# Altium schematic symbol library ftg_lib.SchLib: 73 symbols (part 1 of 2)
Pins are listed as number, name and electrical type; pins without a type are passive.

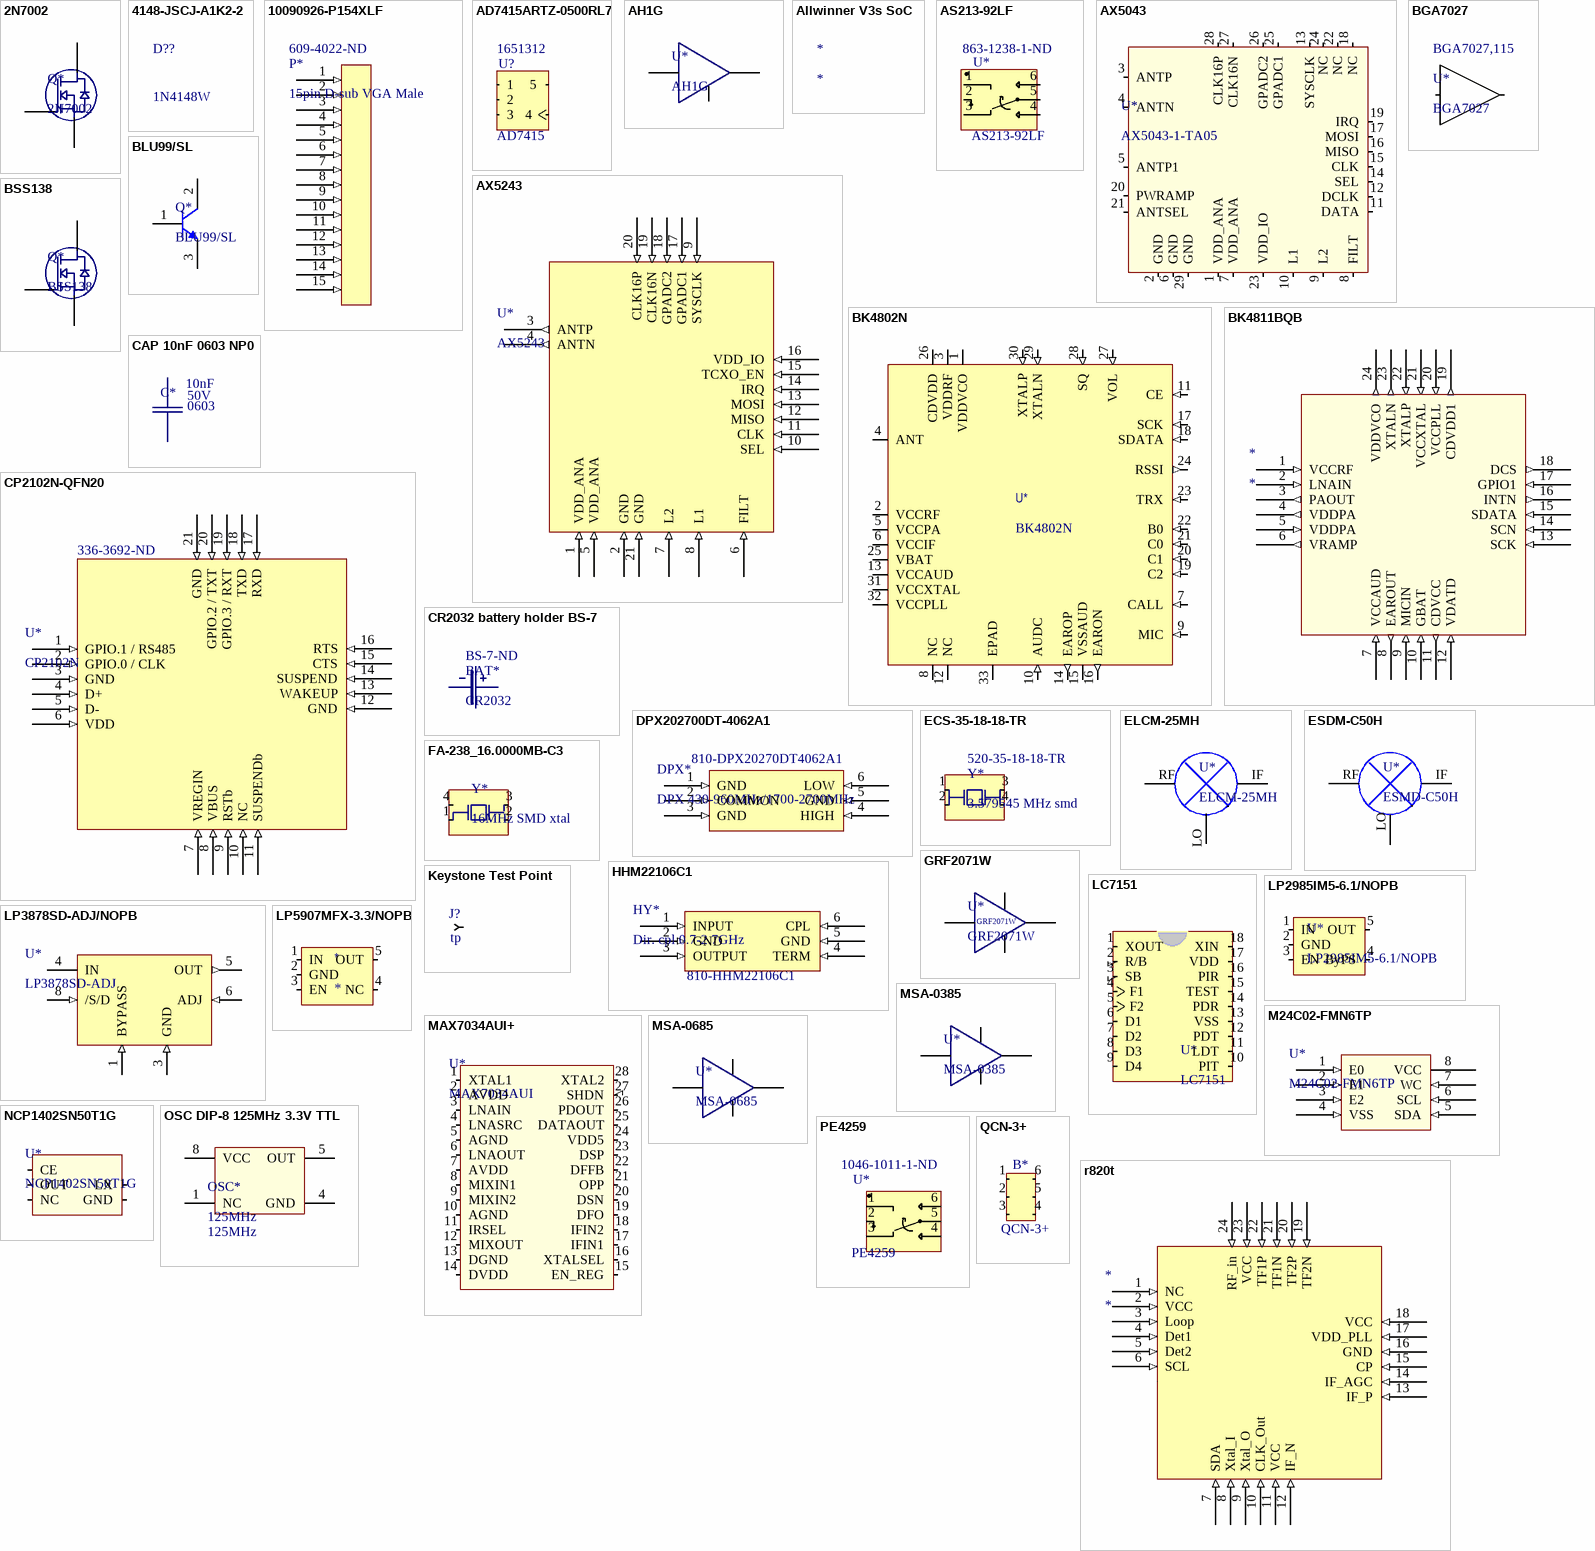
[diagram p0: symbols 2N7002 to r820t]

## 2N7002
designator Q*
MOSFET N-CH 60V 210MA SOT-23; Rds On Max: 7.5R; Input Capacitance: 27pF; Max Power Dissipation: 370mW; Drain to Source Breakdown Voltage: 50V; Turn-Off Delay Time: 7.6ns; Turn-On Delay Time: 2.8ns; Threshold Voltage: 2.5V; Gate to Source Voltage (Vgs): 20V; Number of Elements: 1; Element Configuration: Single; Rise Time: 3ns; Fall Time: 5.6ns; Manufacturer Part Number 1: 2N7002; Mount: Surface Mount; Case/Package: SOT-23; Number of Pins: 3; Contact Plating: Tin; Min Operating Temperature: -55°C; Max Operating Temperature: 150°C; Packaging: Tape and Reel; Package Quantity: 1; Continuous Drain Current (ID): 210mA; Drain to Source Resistance: 7.5R; Power Dissipation: 370mW; Drain to Source Voltage (Vdss): 50V; Nominal Vgs: 2.5V; Voltage Rating (DC): 50V; Current Rating: 210mA; Voltage: 50V; Dual Supply Voltage: 50V; Termination: SMD/SMT; Length: 2.92mm; Height: 0.93mm; Width: 1.3mm; Radiation Hardening: No; REACH SVHC: No SVHC; Lead Free: Lead Free; ComponentLink1URL: https://www.diodes.com/assets/Datasheets/ds11303.pdf; ComponentLink1Description: https://www.diodes.com/assets/Datasheets/ds11303.pdf; Supplier Part Number 1: 2N7002
footprint SOT-23 3-pin (SOT23, 3-Leads, Body 2,92x2,45mm, Pitch 0,95mm, IPC Medium Density)
pins: 1, 2, 3

## 4148-JSCJ-A1K2-2
designator D??, comment 1N4148W
Fast Switching Diode, 75 V, 150 mA, 2-Pin 2.7 x 1.6 x 1.25 mm SMD, Tape and Reel; Manufacturer: Changjiang Electronics; TSTG (degC): -55 to 150; IR (uA): 1; VR (V): 75; VF (V): 1.25; PD (mW): 350; Trr (ns): 4; IO (mA): 150; Packing: Tape and Reel; ComponentLink2URL: http://www.cj-elec.com/txUpfile/20121613352740313.pdf; PackageReference: SOD-123-2; PackageVersion: Rev. A; DatasheetVersion: Rev. A; ComponentLink3Description: Package Specification; ComponentLink3URL: http://www.cj-elec.com/txUpfile/201412112231195145.pdf; ComponentLink1Description: Manufacturer URL; ComponentLink1URL: http://www.cj-elec.com/; PartNumber: 1N4148W; ComponentLink2Description: Datasheet; PackageDescription: 2-Pin SMD, Body 2.7 x 1.6 mm, Height 1.25 mm; Mounting Technology: Surface Mount
footprint JSCJ-SOD-123-2_V (SMD, 2-Leads, Body 2.7x1.6mm, Height 1.25mm)

## 10090926-P154XLF
designator P*, comment 15pin D-sub VGA Male  Supplier Part Number 1: 609-4022-ND
CONN DSUB HD PLUG 15POS R/A SLDR; Manufacturer 1: Amphenol FCI; Manufacturer Part Number 1: 10090926-P154XLF; Plating: Nickel; Body Material: Steel; Max Supply Voltage: 250V; Current Rating: 2.5A; Mating Cycles: 200; Number of Positions: 15; Insulation: Insulated; Connector Type: D-Sub,Plug,Signal; Number of Ports: 1; Pitch: 2.29mm; Supplier 1: Digi-Key; Stock 1: 3052; Pricing 1: 1=1.66, 10=1.503, 25=1.4104, 50=1.3492, 100=1.2879, 250=1.1653, 500=1.0733, 1000=0.92, 2500=0.8586 (USD); Mount: Through Hole; Contact Plating: Nickel,Gold; Contact Material: Copper Alloy; Colour: Black; Shell Material: Steel; Number of Terminals: 15; Insulation Material: Thermoplastic; Housing Material: Thermoplastic; Min Operating Temperature: -55°C; Max Operating Temperature: 105°C; Number of Rows: 3; Gender: Male; Voltage Rating: 250V; Package Quantity: 90; Packaging: Tray; Termination: Solder; Number of Contacts: 15; Orientation: Right Angle; Length: 30.81mm; Height: 12.55mm; Width: 16.2mm; Depth: 22.1mm; Radiation Hardening: No; REACH SVHC: No SVHC; ComponentLink1URL: https://datasheet.ciiva.com/11743/0900766b80fc897f-11743105.pdf; ComponentLink1Description: https://datasheet.ciiva.com/11743/0900766b80fc897f-11743105.pdf; ComponentLink2URL: https://datasheet.ciiva.com/15177/getdatasheetpartid-254722-15177999.pdf; ComponentLink2Description: https://datasheet.ciiva.com/15177/getdatasheetpartid-254722-15177999.pdf; ComponentLink3URL: https://datasheet.ciiva.com/656/10090926-656427.pdf; ComponentLink3Description: https://datasheet.ciiva.com/656/10090926-656427.pdf; ComponentLink4URL: https://datasheet.ciiva.com/3108/10090926-3108332.pdf; ComponentLink4Description: https://datasheet.ciiva.com/3108/10090926-3108332.pdf
pins: 1 (in), 2 (in), 3 (in), 4 (in), 5 (in), 6 (in), 7 (in), 8 (in), 9 (in), 10 (in), 11 (in), 12 (in), 13 (in), 14 (in), 15 (in)

## AD7415ARTZ-0500RL7
designator U?, comment AD7415  OrderCode: 1651312
I2C temperature sensor; Manufacturer: ANALOG DEVICES; ManufacturerRef: AD7415ARTZ-0500RL7; Seller: Farnell; IC Output Type: Digital; Sensing Accuracy Range: ± 0.5; Sensing Temperature Min: -40; Sensing Temperature Max: +125; Sensor Case Style: SOT-23; No. of Pins: 5; Supply Voltage Min: 2.7; Supply Voltage Max: 5.5; Product Range: AD7415 Series; SVHC: No SVHC (17-Dec-2015); Base Number: 7415; Resolution: 10; Supply Current: 1.2; Supply Voltage Range: 2.7V to 5.5; Temperature Sensing Range: -40°C to +125; RoHS: YES; Stock 1: 1305; Pricing 1: 1=2.69, 10=1.81, 100=1.74, 250=1.57, 500=1.5, 800=1.41, 3000=1.33, 5000=1.24 (EUR); Packaging: Cut Tape; MSL: MSL 1 - Unlimited; Operating Temperature Max: 125; Operating Temperature Range: -40°C to +125; Resolution (Bits): 10; Sensor / Transducer Type: Temperature; Termination Type: Surface Mount Device<!--FANDB--><div class="features-and-benefits-container"><div class="features-and-benefits-description"><span class="features-benefits-value">The AD7415ARTZ-0500RL7 is a Digital Output Temperature Sensor that provides a 2-wire serial interface that is compatible with SMBus and I²C interface. It contains a band gap temperature sensor, a 10-bit ADC to monitor and digitize the temperature reading to a resolution of 0.25°C. The parts come in four versions and all versions give the possibility of eight different I²C addresses. The AD7415's supply voltage, low supply current and serial interface make it ideal for a variety of applications including personal computers, office equipment, cellular phones and domestic appliances.</span></div><div class="features-and-benefits-list"><ul class="features-and-benefits-list-list"><li class="features-and-benefits-list-item">10-bit Temperature-to-digital converter</li><li class="features-and-benefits-list-item">3?A Power-down current</li><li class="features-and-benefits-list-item">29?s Typical temperature conversion time</li><li class="features-and-benefits-list-item">Pin selectable addressing via AS</li><li class="features-and-benefits-list-item">2 Versions allow 6 I²C addresses</li></ul></div><div class="features-and-benefits-warnings"><span class="features-benefits-value">ESD sensitive device, take proper precaution while handling the device.</span></div><div class="features-and-benefits-applications"><ul class="features-and-benefits-value"><li class="features-and-benefits-list-item">Computers & Computer Peripherals</li><li class="features-and-benefits-list-item">Automation & Process Control</li><li class="features-and-benefits-list-item">Communications & Networking</li></ul></div></div>; ComponentLink1URL: http://www.farnell.com/datasheets/750934.pdf; ComponentLink1Description: http://www.farnell.com/datasheets/750934.pdf; ComponentLink2URL: http://www.farnell.com/cad/1617077.zip; ComponentLink2Description: http://www.farnell.com/cad/1617077.zip; Publisher: iv
footprint SOT23-5 (SOT23-5 case)
pins: 1, 2, 3, 4, 5

## AH1G
designator U*
250-4000MHz MMIC PA AMP; Manufacturer 1: TriQuint; Manufacturer Part Number 1: AH1; Frequency: 4GHz; Number of Channels: 1; Supply Voltage: 5V; Gain: 13.5dB; P1dB: +22dBm; Supplier 1: Newark; Stock 1: 0; Pricing 1: 1=37.74, 25=34.58, 50=32.12, 100=31.07, 250=30.01 (USD); Mount: Surface Mount; Case/Package: SOT-89; Radiation Hardening: No; ComponentLink1URL: https://www.verical.com/server-webapp/html/getDatasheet?partID=559390; ComponentLink1Description: https://www.verical.com/server-webapp/html/getDatasheet?partID=559390; Supplier Part Number 1: 15B6194
footprint SOT-89 (SOT-89/TO-243C case)
pins: 1, 2, 3

## Allwinner V3s SoC
designator *
footprint eTQFP40P1600X1600X160_HS-129N (eTQFP, 128-Leads, Body 14,00x14,00mm, Pitch 0,40mm, Thermal Pad 7,75x7,75mm, IPC Medium Density Allwinner)

## AS213-92LF
designator U*  Supplier Part Number 1: 863-1238-1-ND
Switch SPDT 0.1-3GHZ GAAS SC70-6; Manufacturer 1: Skyworks Solutions Inc.; Frequency - Lower: 100MHz; Frequency - Upper: 3GHz; Isolation @ Frequency: 19dB @ 3GHz (typ); Insertion Loss @ Frequency: 0.5dB @ 3GHz; IIP3: 40dBm (typ); Topology: Reflective; P1dB: 27dBm (typ) IP1dB; Impedance: 50 Ohm; Voltage - Supply: 3V; RF Type: Bluetooth, WLAN; Supplier 1: Digi-Key; Manufacturer Part Number 1: AS213-92LF; RoHS: RoHS Compliant; Category: RF/IF and RFID; Stock 1: 26253; Pricing 1: 1=0.41, 100=0.3393 (EUR); Packaging: Cut Tape (CT); Circuit: SPDT; Features: -; Operating Temperature: -40°C ~ 85°C; Package / Case: 6-TSSOP, SC-88, SOT-363; Supplier Device Package: SC-70-6; ComponentLink1URL: http://www.skyworksinc.com/uploads/documents/200193D.pdf; ComponentLink1Description: http://www.skyworksinc.com/uploads/documents/200193D.pdf
footprint SC70_6
pins: 1, 2, 3, 4, 5, 6

## AX5043
designator U*, comment AX5043-1-TA05
Data Tranceiver 27-1050MHz Separate TX/RX ports; Manufacturer: ON Semiconductor; Frequency: 27MHz; Data Rate: 125Kbps; Sensitivity: -137dBm; Max Frequency: 1.05GHz; Min Supply Voltage: 1.8V; Max Supply Voltage: 3.6V; Interface: SPI,UART; Current - Receiving: 11mA; Current - Transmitting: 48mA; Supplier 1: Mouser; Manufacturer Part Number: AX5043-1-TA05; Stock 1: 3949; Mount: Surface Mount; Case/Package: QFN; Number of Pins: 28; Min Operating Temperature: -40°C; Max Operating Temperature: 85°C; Packaging: Tape and Reel; REACH SVHC: No SVHC; Lead Free: Lead Free; ComponentLink1URL: http://www.mouser.com/ds/2/308/AX5043-D-782042.pdf; ComponentLink1Description: http://www.mouser.com/ds/2/308/AX5043-D-782042.pdf; ComponentLink2URL: http://www.onsemi.com/pub_link/Collateral/AX5043-D.PDF; ComponentLink2Description: http://www.onsemi.com/pub_link/Collateral/AX5043-D.PDF; ComponentLink3URL: http://www.farnell.com/datasheets/2009298.pdf; ComponentLink3Description: http://www.farnell.com/datasheets/2009298.pdf; ComponentLink4URL: http://www.onsemi.com/pub/Collateral/AX5043-D.PDF; ComponentLink4Description: http://www.onsemi.com/pub/Collateral/AX5043-D.PDF
footprint QFN50P500X500X85_HS-29M (QFN, 28-Leads, Body 5,00x5,00mm, Pitch 0,50mm, Thermal Pad 3,25x3,25mm, IPC Low Density)
pins: 1 VDD_ANA (in), 2 GND (in), 3 ANTP (out), 4 ANTN (out), 5 ANTP1 (out), 6 GND (in), 7 VDD_ANA (in), 8 FILT (in), 9 L2 (in), 10 L1 (in), 11 DATA (in), 12 DCLK (in), 13 SYSCLK (in), 14 SEL (in), 15 CLK (in), 16 MISO (in), 17 MOSI (in), 18 NC (in), 19 IRQ (in), 20 PWRAMP (out), 21 ANTSEL (out), 22 NC (in), 23 VDD_IO (in), 24 NC (in), 25 GPADC1 (in), 26 GPADC2 (in), 27 CLK16N (in), 28 CLK16P (in), 29 GND (in) "Center pad"

## AX5243
designator U*
Data Tranceiver 27-1050MHz common TX/RX port; Frequency: 27MHz; Data Rate: 125Kbps; Sensitivity: -137dBm; Interface: SPI; Current - Receiving: 11mA; Current - Transmitting: 48mA; Max Frequency: 1.05GHz; Min Supply Voltage: 1.8V; Max Supply Voltage: 3.6V; Supplier 1: Mouser; Supplier 2: Digi-Key; Manufacturer 2: ON Semiconductor; Manufacturer Part Number 2: AX5243-1-TA05; Stock 2: 0; Pricing 2: 1=2.34, 10=2.117, 100=1.701 (USD); Mount: Surface Mount; Case/Package: QFN; Number of Pins: 20; Min Operating Temperature: -40°C; Max Operating Temperature: 85°C; Packaging: Tape and Reel; Lead Free: Lead Free; REACH SVHC: No SVHC; ComponentLink1URL: http://www.onsemi.com/pub/Collateral/AX5243-D.PDF; ComponentLink1Description: http://www.onsemi.com/pub/Collateral/AX5243-D.PDF; ComponentLink2URL: http://www.farnell.com/datasheets/2009300.pdf; ComponentLink2Description: http://www.farnell.com/datasheets/2009300.pdf; Supplier Part Number 1: 863-AX5243-1-TA05; Supplier Part Number 2: AX5243-1-TA05OSCT-ND
footprint QFN20 4,00x4,00mm ON Semi
pins: 1 VDD_ANA (in), 2 GND (in), 3 ANTP (out), 4 ANTN (out), 5 VDD_ANA (in), 6 FILT (in), 7 L2 (in), 8 L1 (in), 9 SYSCLK (in), 10 SEL (in), 11 CLK (in), 12 MISO (in), 13 MOSI (in), 14 IRQ (in), 15 TCXO_EN (in), 16 VDD_IO (in), 17 GPADC1 (in), 18 GPADC2 (in), 19 CLK16N (in), 20 CLK16P (in), 21 GND (in) "Center pad"

## BGA7027
designator U*  Manufacturer Part Number: BGA7027,115
700-2700MHz amplifier 26dBm, 11dB gain; Manufacturer: NXP Semiconductors; Frequency: 400MHz ~ 2.7GHz; Noise Figure: 3.9dB; RF Type: General Purpose; Voltage - Supply: 5V; Current - Supply: 165mA; Test Frequency: 2.14GHz; Supplier 1: Mouser; Stock 1: 982; Standard Package: 1,000; Category: RF/IF and RFID; Family: RF Amplifiers; P1dB: 26dBm; Gain: 11dB; Package / Case: TO-243AA; Packaging: Tape & Reel (TR); ComponentLink1URL: https://datasheet.ciiva.com/6491/bga7027-6491665.pdf; ComponentLink1Description: https://datasheet.ciiva.com/6491/bga7027-6491665.pdf; ComponentLink2URL: https://datasheet.ciiva.com/16644/bga7027-16644189.pdf; ComponentLink2Description: https://datasheet.ciiva.com/16644/bga7027-16644189.pdf; ComponentLink3URL: https://datasheet.ciiva.com/2790/bga7027-2790964.pdf; ComponentLink3Description: https://datasheet.ciiva.com/2790/bga7027-2790964.pdf; Supplier Part Number 1: 771-BGA7027115
pins: 1, 2

## BK4802N
designator U*
Self-contained Analog FM Two Way TRX; Min Supply Voltage: 2.5V; Max Supply Voltage: 3.6V
footprint QFN127P600-8N_Beken (QFN32 4x4 Beken)
pins: 1 VDDVCO (power), 2 VCCRF (power), 3 VDDRF (power), 4 ANT (io), 5 VCCPA (power), 6 VCCIF (power), 7 CALL (in), 8 NC, 9 MIC (in), 10 AUDC (in), 11 CE (in) "Enable", 12 NC, 13 VCCAUD (power), 14 EAROP (out), 15 VSSAUD (power), 16 EARON (out), 17 SCK (in) "I2C SCL", 18 SDATA (in) "I2C SDA", 19 C2 (in), 20 C1 (in), 21 C0 (in), 22 B0 (in), 23 TRX (in) "TX/RX", 24 RSSI (out), 25 VBAT (power), 26 CDVDD (power), 27 VOL (in), 28 SQ (in), 29 XTALN (in), 30 XTALP (in), 31 VCCXTAL (power), 32 VCCPLL (power), 33 EPAD (power)

## BK4811BQB
designator *
footprint QFN40P400X400X80_HS-25N (QFN, 24-Leads, Body 4,00x4,00mm, Pitch 0,40mm, Thermal Pad 2,43x2,43mm, IPC Medium Density)
pins: 1 VCCRF (in) "Power Supply", 2 LNAIN (in) "LNA input port", 3 PAOUT (out) "PA output port", 4 VDDPA (out) "PA regulator output", 5 VDDPA (in) "PA regulator input", 6 VRAMP (out) "Reg output", 7 VCCAUD (in) "Audio Power", 8 EAROUT (out) "Earpiece output", 9 MICIN (in) "Mic input", 10 GBAT (in) "Ground", 11 CDVCC (out) "Reg output", 12 VDATD (in) "VCC", 13 SCK (in) "SPI Clock", 14 SCN (in) "SPI Enable", 15 SDATA (in) "SPI data", 16 INTN (out) "Interrupt Signal to MCU", 17 GPIO1 (in), 18 DCS (out) "DCS Output", 19 CDVDD1 (out) "Reg output", 20 VCCPLL (in) "PLL supply", 21 VCCXTAL (in) "Xtal osc supply", 22 XTALP (in) "Xtal osc input", 23 XTALN (out) "Xtal osc output", 24 VDDVCO (out) "VCO reg output"

## BLU99/SL
designator Q*
RF transistor 5W 400-1300MHz SOT122D
footprint SOT122D (SOT122D studless RF transistor case)
pins: 1 B, 2 C, 3 E

## BSS138
designator Q*
MOSFET N-CH 50V 220MA SOT-23; Manufacturer 1: Fairchild Semiconductor; Rds On Max: 3.5R; Input Capacitance: 27pF; Max Power Dissipation: 360mW; Turn-Off Delay Time: 20ns; Turn-On Delay Time: 2.5ns; Threshold Voltage: 1.3V; Gate to Source Voltage (Vgs): 20V; Number of Elements: 1; Element Configuration: Single; Rise Time: 9ns; Supplier 1: Mouser; Manufacturer Part Number 1: BSS138; Stock 1: 144086; Pricing 1: 1=0.21, 10=0.145, 100=0.06, 1000=0.041, 3000=0.032, 9000=0.027, 24000=0.026, 45000=0.024, 99000=0.021 (USD); Mount: Surface Mount; Case/Package: SOT-23; Number of Pins: 3; Contact Plating: Tin; Min Operating Temperature: -55°C; Max Operating Temperature: 150°C; Packaging: Tape and Reel; Package Quantity: 1; Continuous Drain Current (ID): 220mA; Drain to Source Breakdown Voltage: 50V; Drain to Source Resistance: 3.5R; Power Dissipation: 360mW; Drain to Source Voltage (Vdss): 50V; Nominal Vgs: 1.3V; Voltage Rating (DC): 50V; Current Rating: 220mA; Fall Time: 9ns; Voltage: 50V; Dual Supply Voltage: 50V; Termination: SMD/SMT; Length: 2.92mm; Height: 0.93mm; Width: 1.3mm; Radiation Hardening: No; REACH SVHC: No SVHC; Lead Free: Lead Free; ComponentLink1URL: https://datasheet.ciiva.com/1190/193736-1190130.pdf; ComponentLink1Description: https://datasheet.ciiva.com/1190/193736-1190130.pdf; ComponentLink2URL: https://datasheet.ciiva.com/931/bss138-931776.pdf; ComponentLink2Description: https://datasheet.ciiva.com/931/bss138-931776.pdf; ComponentLink3URL: https://datasheet.ciiva.com/16834/bss138-16834843.pdf; ComponentLink3Description: https://datasheet.ciiva.com/16834/bss138-16834843.pdf; ComponentLink4URL: https://datasheet.ciiva.com/22655/193736-22655240.pdf; ComponentLink4Description: https://datasheet.ciiva.com/22655/193736-22655240.pdf; ComponentLink5URL: https://datasheet.ciiva.com/26229/bss138-26229007.pdf; ComponentLink5Description: https://datasheet.ciiva.com/26229/bss138-26229007.pdf; ComponentLink6URL: https://datasheet.ciiva.com/27050/784896-27050043.pdf; ComponentLink6Description: https://datasheet.ciiva.com/27050/784896-27050043.pdf; ComponentLink7URL: https://datasheet.ciiva.com/1254/193736-1254983.pdf; ComponentLink7Description: https://datasheet.ciiva.com/1254/193736-1254983.pdf; ComponentLink8URL: https://datasheet.ciiva.com/1190/193736-1190131.pdf; ComponentLink8Description: https://datasheet.ciiva.com/1190/193736-1190131.pdf; ComponentLink9URL: https://datasheet.ciiva.com/3304/bss138-3304424.pdf; ComponentLink9Description: https://datasheet.ciiva.com/3304/bss138-3304424.pdf; ComponentLink10URL: https://datasheet.ciiva.com/3304/bss138-3304423.pdf; ComponentLink10Description: https://datasheet.ciiva.com/3304/bss138-3304423.pdf; Supplier Part Number 1: 512-BSS138
footprint SOT-23 3-pin (SOT23, 3-Leads, Body 2,92x2,45mm, Pitch 0,95mm, IPC Medium Density)
pins: 1, 2, 3

## CAP 10nF 0603 NP0
designator C*, comment Case Code (Imperial): 0603  Capacitance: 10nF  Voltage: 50V  (hidden comment: 10nF 0603 NP0)
10nF 0603 NP0 muRata; Manufacturer Part Number 1: GRM1885C1H103JA01D; Tolerance: 5%; Dielectric: C0G; Supplier 1: Mouser; Manufacturer 1: Murata; Stock 1: 5; Pricing 1: 1=0.13, 10=0.05, 50=0.05, 100=0.035, 1000=0.024, 10000=0.016 (USD); Case/Package: 0603; Case Code (Metric): 1608; Material: Ceramic; Min Operating Temperature: -55°C; Max Operating Temperature: 125°C; Packaging: Tape and Reel; Package Quantity: 4000; Voltage Rating: 50V; Voltage Rating (DC): 50V; Termination: SMD/SMT; Length: 1.6mm; Height: 0.8mm; Width: 0.8mm; Thickness: 0.035inch; Lead Pitch: 0.5mm; Depth: 0.8mm; REACH SVHC: No SVHC; Lead Free: Lead Free; ComponentLink1URL: https://datasheet.ciiva.com/41860/partnumbering-e-01-41860759.pdf; ComponentLink1Description: https://datasheet.ciiva.com/41860/partnumbering-e-01-41860759.pdf; ComponentLink2URL: https://datasheet.ciiva.com/29537/partnumbering-e-01-29537910.pdf; ComponentLink2Description: https://datasheet.ciiva.com/29537/partnumbering-e-01-29537910.pdf; Supplier Part Number 1: 81-GRM1885C1H103JA1D
footprint C0603_murata
pins: 1, 2

## CP2102N-QFN20
designator U*, comment CP2102N  Supplier Part Number 1: 336-3692-ND
USB-UART, crystalles; Manufacturer 1: Silicon Labs; Manufacturer Part Number 1: CP2102N-A01-GQFN20; Min Supply Voltage: 3V; Max Supply Voltage: 3.6V; Supplier 1: Digi-Key; Stock 1: 13531; Pricing 1: 1=1.33, 25=1.2808, 100=1.2317, 1000=1.1526 (USD); Case/Package: QFN; Number of Pins: 20; Min Operating Temperature: -40°C; Max Operating Temperature: 85°C; REACH SVHC: Unknown; ComponentLink1URL: http://www.farnell.com/datasheets/2060533.pdf; ComponentLink1Description: http://www.farnell.com/datasheets/2060533.pdf; ComponentLink2URL: http://www.farnell.com/datasheets/2245279.pdf; ComponentLink2Description: http://www.farnell.com/datasheets/2245279.pdf; ComponentLink3URL: http://www.silabs.com/documents/public/data-sheets/cp2102n-datasheet.pdf; ComponentLink3Description: http://www.silabs.com/documents/public/data-sheets/cp2102n-datasheet.pdf
footprint QFN20_SILABS (SiLabs CP2102N QFN footprint)
pins: 1 GPIO.1 / RS485 (in) "DCD", 2 GPIO.0 / CLK (in), 3 GND (in), 4 D+ (in), 5 D- (in), 6 VDD (in), 7 VREGIN (in), 8 VBUS (in), 9 RSTb (in), 10 NC (in), 11 SUSPENDb (in), 12 GND (in), 13 WAKEUP (in), 14 SUSPEND (in), 15 CTS (in), 16 RTS (in), 17 RXD (in), 18 TXD (in), 19 GPIO.3 / RXT (in), 20 GPIO.2 / TXT (in), 21 GND (in) "PAD"

## CR2032 battery holder BS-7
designator BAT*, comment CR2032  Supplier Part Number 1: BS-7-ND
CR2032 battery holder BS-7; Manufacturer 1: Memory Protection Devices; Number of Cells: 1; Supplier 1: Digi-Key; Manufacturer Part Number 1: BS-7; Stock 1: 86890; Pricing 1: 1=0.79, 10=0.735, 100=0.6618, 500=0.5987, 1000=0.4727 (USD); Mount: Through Hole,PCB; Min Operating Temperature: -55°C; Max Operating Temperature: 105°C; Package Quantity: 100; Termination: PC Pin; Diameter: 20mm; Lead Free: Lead Free; ComponentLink1URL: https://datasheet.ciiva.com/3/bs-7-datasheet-3824.pdf; ComponentLink1Description: https://datasheet.ciiva.com/3/bs-7-datasheet-3824.pdf
footprint BS-7 (CR2032 battery holder, THT PCB mount)
pins: 1, 2

## DPX202700DT-4062A1
designator DPX*, comment DPX 430-960MHz/1700-2700MHz  Supplier Part Number 1: 810-DPX20270DT4062A1
Diplexer 430-960MHz/1700-2700MHz 0603; Manufacturer 1: TDK; Manufacturer Part Number: DPX202700DT-4062A1; Supplier 1: Mouser; Manufacturer: TDK; Stock 1: 2639; Mount: Surface Mount; Case Code (Metric): 2012; Case Code (Imperial): 0805; Packaging: Tape and Reel
footprint 1.6x0.8mm [EIA 0603] (HHM22106C1 case)
pins: 1 GND (in) "Input", 2 COMMON (in) "GND", 3 GND (in) "Output", 4 HIGH (in) "50ohm Termination", 5 GND (in), 6 LOW (in) "Coupled port"

## ECS-35-18-18-TR
designator Y*, comment 3.579545 MHz smd  Supplier Part Number 1: 520-35-18-18-TR
3.579545 SMD MHz xtal; Manufacturer 1: ECS; Manufacturer Part Number 1: ECS-35-18-18-TR; Case Height: 2.5 mm; Case Length: 11.8 mm; Case Width: 5.5 mm; ESR: 200 Ohms; Frequency Stability: 100 PPM; Load Capacitance: 18 pF; Tolerance: 30 PPM; Supplier 1: Mouser; Stock 1: 271; Pricing 1: 1=1.46, 10=1.39, 50=1.36, 100=1.17, 1000=0.959, 10000=0.878 (USD); Brand: ECS; Dimensions: 5.5 mm W x 11.8 mm L x 2.5 mm H; Frequency: 3.579545 MHz; Package / Case: 11.8 mm x 5.5 mm; Operating Temperature Range: - 40 C to + 85 C; Mounting Style: SMD/SMT; Factory Pack Quantity: 1000; Product Category: Crystals; RoHS: Details; Termination Style: SMD/SMT; Packaging: Reel; Series: CSM12; ComponentLink1URL: https://datasheet.ciiva.com/861/csm-12r-861999.pdf; ComponentLink1Description: https://datasheet.ciiva.com/861/csm-12r-861999.pdf
footprint CSM-12 (ECS case CSM-12 11-8 x 5.5 crystal)
pins: 1, 2, 3, 4

## ELCM-25MH
designator U*
Manufacturer 1: TE Connectivity MA-COM; Manufacturer Part Number 1: ELCM-25MHTR; LO Drive: +13dBm; RF Power: +9dBm; Supplier 1: Avnet; Stock 1: 0; ComponentLink1URL: http://www.macomtech.com/DataSheets/ELCM-25MH.pdf; ComponentLink1Description: http://www.macomtech.com/DataSheets/ELCM-25MH.pdf; Supplier Part Number 1: ELCM-25MH
footprint SM-87 (SM-87 Mixer package)
pins: GND, IF, LO, RF

## ESDM-C50H
designator U*, comment ESMD-C50H
RF Mixer 80-2500MHz; Manufacturer 1: TE Connectivity MA-COM; Manufacturer Part Number 1: ESMD-C50HTR; Max Frequency: 2.5GHz; LO Drive: +17dBm; RF Power: +14dBm; Supplier 1: Mouser; Pricing 1: 280=8.86, 500=8.16, 1000=7.54 (USD); Number of Pins: 2; Min Operating Temperature: -40°C; Max Operating Temperature: 85°C; Packaging: Tape and Reel; Package Quantity: 500; ComponentLink1URL: https://datasheet.ciiva.com/3271/esmd-c50h-3271110.pdf; ComponentLink1Description: https://datasheet.ciiva.com/3271/esmd-c50h-3271110.pdf; Supplier Part Number 1: 937-ESMD-C50HTR
footprint SM-2 (SM-2 case)
pins: GND, IF, LO, RF

## FA-238_16.0000MB-C3
designator Y*, comment 16MHz SMD xtal
16MHz SMD xtal 3.20mm x 2.50mm; Manufacturer: Epson; Manufacturer Part Number: FA-23816.0000MB-C3; Tolerance: 50ppm; Load Capacitance: 18pF; ESR (Equivalent Series Resistance): 80R; Frequency Stability: 30ppm; Supplier 1: Digi-Key; Stock 1: 19537; Mount: Surface Mount; Case/Package: SMD/SMT; Weight: 0.000564oz; Min Operating Temperature: -20°C; Max Operating Temperature: 70°C; Packaging: Tape and Reel; Package Quantity: 250; Frequency: 16MHz; Frequency Tolerance: 50ppm; Termination: SMD/SMT; Length: 0.126inch; Height: 0.028inch; Width: 0.098inch; Lead Free: Lead Free; ComponentLink1URL: http://www.eea.epson.com/portal/pls/portal/docs/1/1531444.PDF; ComponentLink1Description: http://www.eea.epson.com/portal/pls/portal/docs/1/1531444.PDF; ComponentLink2URL: http://www.mouser.com/ds/2/137/A-238_en-932914.pdf; ComponentLink2Description: http://www.mouser.com/ds/2/137/A-238_en-932914.pdf; Supplier Part Number 1: SER3686CT-ND
footprint FA-238 (EPSON 3.20 x 2.50 SMD crystal case)
pins: 1, 2, 3, 4

## GRF2071W
designator U*
0.7 - 2.7 GHz Ultra-Low Noise Amplifier AEC-Q100; Manufacturer 1: GuerillaRF; Manufacturer Part Number 1: GRF2071-W; Number of Channels: 1; Supply Voltage: 5V; Gain: 19dB; P1dB: +21dBm; Stock 1: 0; Mount: Surface Mount; Case/Package: DFN8; Frequency: 0.7 - 2.7 GHz; Radiation Hardening: No; ComponentLink1URL: https://www.verical.com/server-webapp/html/getDatasheet?partID=559390; ComponentLink1Description: https://www.verical.com/server-webapp/html/getDatasheet?partID=559390; Supplier Part Number 1: 459-GRF2071W; Supplier 1: Mouser
footprint GRF_DFN8_2x2mm (DFN8 8-Leads, Body 2,00x2,00mm, Pitch 0,50mm, Thermal Pad 1,20x0,60mm, IPC Low Density)
pins: 1 Venable, 2 RF_In, 3 GND, 3 6, 4 GND, 5 GND, 7 RF_Out, 8 GND, 9 GND

## HHM22106C1
designator HY*, comment Dir. cpl 0.7-2.7GHz  Supplier Part Number 1: 810-HHM22106C1
0.7-2.7GHz 28.5dB directional coupler; Manufacturer 1: TDK; Manufacturer Part Number 1: HHM22106C1; Frequency: 700MHz; Insertion Loss: 0.2dB; Supplier 1: Mouser; Stock 1: 2964; Pricing 1: 1=0.43, 10=0.336, 50=0.336, 100=0.191, 1000=0.118, 10000=0.092 (USD); Case/Package: 0603; Weight: 7.1E-05oz; Case Code (Metric): 1608; Case Code (Imperial): 0603; Min Operating Temperature: -40°C; Max Operating Temperature: 85°C; Packaging: Tape and Reel; Termination: SMD/SMT; Package Quantity: 4000; ComponentLink1URL: //media.digikey.com/pdf/Data%20Sheets/TDK%20PDFs/HHM22106C1.pdf; ComponentLink1Description: //media.digikey.com/pdf/Data%20Sheets/TDK%20PDFs/HHM22106C1.pdf; ComponentLink2URL: https://product.tdk.com/info/en/documents/data_sheet/rf_coupler_hhm2910e4_en.pdf; ComponentLink2Description: https://product.tdk.com/info/en/documents/data_sheet/rf_coupler_hhm2910e4_en.pdf
footprint 1.6x0.8mm [EIA 0603] (HHM22106C1 case)
pins: 1 INPUT (in) "Input", 2 GND (in), 3 OUTPUT (in) "Output", 4 TERM (in) "50ohm Termination", 5 GND (in), 6 CPL (in) "Coupled port"

## Keystone Test Point
designator J?, comment tp
footprint Test Point (Keystone Test Point)
pins: 1

## LC7151
designator U*
10ch 46/49MHz PLL chip; Publisher: ftg
footprint DIP18_sanyo
pins: 1 XOUT, 2 R/B, 3 SB, 4 F1, 5 F2, 6 D1, 7 D2, 8 D3, 9 D4, 10 PIT, 11 LDT, 12 PDT, 13 VSS, 14 PDR, 15 TEST, 16 PIR, 17 VDD, 18 XIN

## LP2985IM5-6.1/NOPB
designator U*
6.1V 150mA LDO; Manufacturer 1: Texas Instruments; Rad Hard: No; Polarity: Positive; Number of Outputs: 1; Minimum Input Voltage: 2.5 V; Maximum Input Voltage: 16 V; Maximum Output Current: 0.15 A; Typical Dropout Voltage @ Current: 0.0001@0mA|0.007@1mA|0.04@10mA|0.12@50mA|0.28@150mA V; Accuracy: ±3 %; Line Regulation: 0.014 %/V; Output Type: Fixed; Supplier 1: Mouser; Stock 1: 539; Pricing 1: 1=0.76, 10=0.632, 50=0.632, 100=0.408, 1000=0.326, 10000=0.265 (USD); Packaging: Tape & Reel; Package: 5SOT-23; Type: Linear; Output Voltage: 6.1 V; Operating Temperature: -40 to 125 °C; Mounting: Surface Mount; Category: Linear Regulator; ComponentLink1URL: https://datasheet.ciiva.com/6592/lp2985-n-6592025.pdf; ComponentLink1Description: https://datasheet.ciiva.com/6592/lp2985-n-6592025.pdf; ComponentLink2URL: https://datasheet.ciiva.com/26168/lp2985-n-26168191.pdf; ComponentLink2Description: https://datasheet.ciiva.com/26168/lp2985-n-26168191.pdf; ComponentLink3URL: https://datasheet.ciiva.com/6592/lp2985-n-6592022.pdf; ComponentLink3Description: https://datasheet.ciiva.com/6592/lp2985-n-6592022.pdf; ComponentLink4URL: https://datasheet.ciiva.com/13028/lp2985-n-13028680.pdf; ComponentLink4Description: https://datasheet.ciiva.com/13028/lp2985-n-13028680.pdf; Supplier Part Number 1: 926-LP2985IM561NOPB; Manufacturer Part Number 1: LP2985IM5-6.1/NOPB
footprint SOT23-5 (SOT23-5 case)
pins: 1 IN, 2 GND, 3 EN, 4 ByPS, 5 OUT

## LP3878SD-ADJ/NOPB
designator U*, comment LP3878SD-ADJ
LDO Voltage Regulators Micropower 800mA Low Noise Adj Vltg Reg; Manufacturer 1: TI National Semiconductor; Manufacturer Part Number 1: LP3878SD-ADJ/NOPB; Dropout Voltage: 475mV; Output Voltage: 5.5V; Number of Outputs: 1; Quiescent Current: 10uA; Max Input Voltage: 16V; Min Input Voltage: 2.5V; Min Output Voltage: 1V; Polarity: Positive; Accuracy: 1%; Supplier 1: Mouser; Stock 1: 2823; Pricing 1: 1=2.15, 10=1.93, 50=1.83, 100=1.55, 1000=0.911, 10000=0.911 (USD); Mount: Surface Mount; Case/Package: Ceramic; Number of Pins: 8; Min Operating Temperature: -40°C; Max Operating Temperature: 125°C; Output Current: 800mA; Packaging: Tape and Reel; Max Output Current: 800mA; Max Output Voltage: 5.5V; Output Voltage Accuracy: 1%; Package Quantity: 1000; Number of Regulators: 1; Length: 4mm; Height: 0.8mm; Width: 4mm; Radiation Hardening: No; REACH SVHC: No SVHC; Lead Free: Lead Free; ComponentLink1URL: https://datasheet.ciiva.com/1571/1846896-1571038.pdf; ComponentLink1Description: https://datasheet.ciiva.com/1571/1846896-1571038.pdf; ComponentLink2URL: https://datasheet.ciiva.com/25626/0900766b810fa759-25626986.pdf; ComponentLink2Description: https://datasheet.ciiva.com/25626/0900766b810fa759-25626986.pdf; ComponentLink3URL: https://datasheet.ciiva.com/27052/1329588-27052012.pdf; ComponentLink3Description: https://datasheet.ciiva.com/27052/1329588-27052012.pdf; ComponentLink4URL: https://datasheet.ciiva.com/7992/1814893-7992723.pdf; ComponentLink4Description: https://datasheet.ciiva.com/7992/1814893-7992723.pdf; ComponentLink5URL: https://datasheet.ciiva.com/3223/lp3878-adj-3223947.pdf; ComponentLink5Description: https://datasheet.ciiva.com/3223/lp3878-adj-3223947.pdf; ComponentLink6URL: https://datasheet.ciiva.com/6595/lp3878-adj-6595786.pdf; ComponentLink6Description: https://datasheet.ciiva.com/6595/lp3878-adj-6595786.pdf; ComponentLink7URL: https://datasheet.ciiva.com/3223/lp3878-adj-3223946.pdf; ComponentLink7Description: https://datasheet.ciiva.com/3223/lp3878-adj-3223946.pdf; ComponentLink8URL: https://datasheet.ciiva.com/25974/lp3878-adj-25974985.pdf; ComponentLink8Description: https://datasheet.ciiva.com/25974/lp3878-adj-25974985.pdf; ComponentLink9URL: https://datasheet.ciiva.com/6595/lp3878-adj-6595783.pdf; ComponentLink9Description: https://datasheet.ciiva.com/6595/lp3878-adj-6595783.pdf; Supplier Part Number 1: 926-3878SD-ADJ/NOPB
footprint WSON80P400X80_HS-9N (WSON, 8-Leads, Body 4,00x4,00mm, Pitch 0,80mm, Thermal Pad 3,00x2,60mm, IPC Medium Density)
pins: 1 BYPASS (in), 2 NC (hiz) hidden, 3 GND (in), 4 IN (power), 5 OUT (out), 6 ADJ (in), 7 NC (hiz) hidden, 8 /S/D (in) "SHUTDOWN", 9 hidden to 3 "Thermal pad"

## LP5907MFX-3.3/NOPB
designator *
footprint SOT23-5 (SOT23-5 case)
pins: 1 IN, 2 GND, 3 EN, 4 NC, 5 OUT

## M24C02-FMN6TP
designator U*
24C02 2kbit I2C EEPROM; Manufacturer 1: STMicroelectronics; Rad Hard: No; Interface Type: Serial-I2C; Density: 2 Kb; Maximum Operating Frequency: 0.4 MHz; Maximum Random Access Time: 900 ns; Typical Operating Supply Voltage: 1.8|2.5|3.3|5 V; Organization: 256x8; Data Retention: 200(Min) Year; Hardware Data Protection: Yes; Programming Voltage: 1.7 to 5.5 V; Supplier 1: Mouser; Manufacturer Part Number 1: M24C02-FMN6TP; Stock 1: 9736; Pricing 1: 1=0.13, 10=0.12, 50=0.12, 100=0.105, 1000=0.101, 10000=0.081 (USD); Packaging: Tape & Reel; Package: 8SOIC; Operating Temperature: -40 to 85 °C; Category: EEPROM; ComponentLink1URL: https://datasheet.ciiva.com/30017/dm00071904-30017593.pdf; ComponentLink1Description: https://datasheet.ciiva.com/30017/dm00071904-30017593.pdf; ComponentLink2URL: https://datasheet.ciiva.com/29611/dm00071904-29611880.pdf; ComponentLink2Description: https://datasheet.ciiva.com/29611/dm00071904-29611880.pdf; Supplier Part Number 1: 511-M24C02-FMN6TP; Publisher: ftg
footprint SO8_SOIC8 (SO8 SOIC8)
pins: 1 E0 (in) "Chip Enable", 2 E1 (in) "Chip Enable", 3 E2 (in) "Chip Enable", 4 VSS (in) "GND", 5 SDA (in), 6 SCL (in), 7 WC (in) "Write Control", 8 VCC (power) "Power"

## MAX7034AUI+
designator U*, comment MAX7034AUI
RF Receiver 315MHz/433MHz ASK Superheterodyne; Manufacturer: Maxim; Manufacturer Part Number: MAX7034AUI+; Operating Band Frequency: 300 to 450 MHz; Maximum RF Operating Frequency: 450 MHz; Operating Supply Voltage: 5 V; Supplier 1: Mouser; Stock 1: 138; Package: 28TSSOP; Modulation Technique: ASK; Category: RF Transceiver; ComponentLink1URL: https://datasheet.ciiva.com/2798/max7034-2798624.pdf; ComponentLink1Description: https://datasheet.ciiva.com/2798/max7034-2798624.pdf; Supplier Part Number 1: 700-MAX7034AUI
footprint TSSOP-28-MAXIM
pins: 1 XTAL1 (in), 2 AVDD (in), 3 LNAIN (in), 4 LNASRC (in), 5 AGND (in), 6 LNAOUT (in), 7 AVDD (in), 8 MIXIN1 (in), 9 MIXIN2 (in), 10 AGND (in), 11 IRSEL (in), 12 MIXOUT (in), 13 DGND (in), 14 DVDD (in), 15 EN_REG (in), 16 XTALSEL (in), 17 IFIN1 (in), 18 IFIN2 (in), 19 DFO (in), 20 DSN (in), 21 OPP (in), 22 DFFB (in), 23 DSP (in), 24 VDD5 (in), 25 DATAOUT (in), 26 PDOUT (in), 27 SHDN (in), 28 XTAL2 (in)

## MSA-0385
designator U*
DC-2000MHz MMIC AMP; Manufacturer 1: HP; Frequency: 2GHz; Number of Channels: 1; Supply Voltage: 7V; Gain: 12.5dB; P1dB: +10dBm; Supplier 1: Junkbox; Manufacturer Part Number 1: MSA-0385; Stock 1: 50; Pricing 1: 0eur; Mount: Surface Mount; Case/Package: 85 Plastic; Radiation Hardening: No; Supplier Part Number 1: 15B6194; ComponentLink2Description: MSA-0385 Datasheet; ComponentLink2URL: http://www.hp.woodshot.com/hprfhelp/4_downld/products/rfics/msa0385.pdf
footprint 85 Plastic (85 Plastic / VV105 MMIC case (MAR-6))
pins: 1, 2, 3, 4

## MSA-0685
designator U*
DC-800MHz MMIC AMP; Manufacturer 1: HP; Frequency: 0.8GHz; Number of Channels: 1; Supply Voltage: 5V; Gain: 18.5dB; P1dB: +2dBm; Supplier 1: Junkbox; Manufacturer Part Number 1: MSA-0685; Stock 1: 50; Pricing 1: 0eur; Mount: Surface Mount; Case/Package: 85 Plastic; Radiation Hardening: No; Supplier Part Number 1: 15B6194; ComponentLink2Description: MSA-0685 Datasheet; ComponentLink2URL: http://f5ad.free.fr/Docs_ATV/MSA0685.pdf
footprint 85 Plastic (85 Plastic / VV105 MMIC case (MAR-6))
pins: 1, 2, 3, 4

## NCP1402SN50T1G
designator U*
5V 200 mA, PFM Step-Up  Micropower Switching  Regulator; Manufacturer: OnSemi; Output current: 200mA; Maximum input voltage: 6.0V; Output voltage: 5V; Case: SOT23-5; Publisher: ftg; Datasheet: https://www.onsemi.com/pub/Collateral/NCP1402-D.PDF
footprint SOT23-5_TI (SOT23, 5-Leads, Body 2,90x2,80mm, Pitch 0,95mm, IPC Low Density)
pins: 1 CE (in) "Chip Enable", 2 OUT (out) "Output", 3 NC (in) "Not Connected", 4 GND (in), 5 LX (in) "Inductor pin"

## OSC DIP-8 125MHz 3.3V TTL
designator OSC*, comment 125MHz
DIP Oscillator; Seller: eBay; Supply VOltage: 3.3VDC; Output: 3.3V TTL; Publisher: ftg; Frequency: 125MHz
footprint DIP-8_osc (DIP-8 crystal oscillator)
pins: 1 NC, 4 GND, 5 OUT, 8 VCC

## PE4259
designator U*  Supplier Part Number 1: 1046-1011-1-ND
Switch SPDT 0.01-3GHZ GAAS SC70-6; Manufacturer: Peregrine Semiconductor; Manufacturer Part Number: 4259-63; Impedance: 50R; IIP3: 55dBm; P1dB: 29dBm; Supplier 1: Digi-Key; Stock 1: 446911; Number of Pins: 6; Min Operating Temperature: -40°C; Max Operating Temperature: 85°C; Package Quantity: 1; Packaging: Tape and Reel; Throw Configuration: SPDT; ComponentLink1URL: https://www.verical.com/server-webapp/html/getDatasheet?partID=685660&src-supplier=Verical; ComponentLink1Description: https://www.verical.com/server-webapp/html/getDatasheet?partID=685660&src-supplier=Verical
footprint SC70_6
pins: 1, 2, 3, 4, 5, 6

## QCN-3+
designator B*
footprint QCN-3+ (220-470MHz 90* splitter)
pins: 1 0, 2 1, 3 2, 4 3, 5 4, 6 5

## r820t
designator *
footprint QFN50P400X400X85_HS-25N_r820t (QFN, 24-Leads, Body 4,00x4,00mm, Pitch 0,50mm, Thermal Pad 2,68x2,68mm, IPC Medium Density)
pins: 1 NC (in), 2 VCC (in) "Tuner VCC IN", 3 Loop (in) "Loop through output,", 4 Det1 (in) "pwr det decoupling cap", 5 Det2 (in) "pwr det decoupling cap", 6 SCL (in), 7 SDA (in), 8 Xtal_I (in) "Xtal In", 9 Xtal_O (in) "Xtal Out", 10 CLK_Out (in) "Clock sharing output", 11 VCC (in) "Tuner VCC IN", 12 IF_N (in) "IF output", 13 IF_P (in) "IF output", 14 IF_AGC (in) "IF AGC input", 15 CP (in) "PLL Charge Pump", 16 GND (in), 17 VDD_PLL (in) "PLL 2V decoupling", 18 VCC (in) "Tuner VCC IN", 19 TF2N (in) "Tracking filter", 20 TF2P (in) "Tracking filter", 21 TF1N (in) "Tracking filter", 22 TF1P (in) "Tracking filter", 23 VCC (in) "Tuner VCC IN", 24 RF_in (in) "RF Input", 25 GND (power) "Exposed Pad"

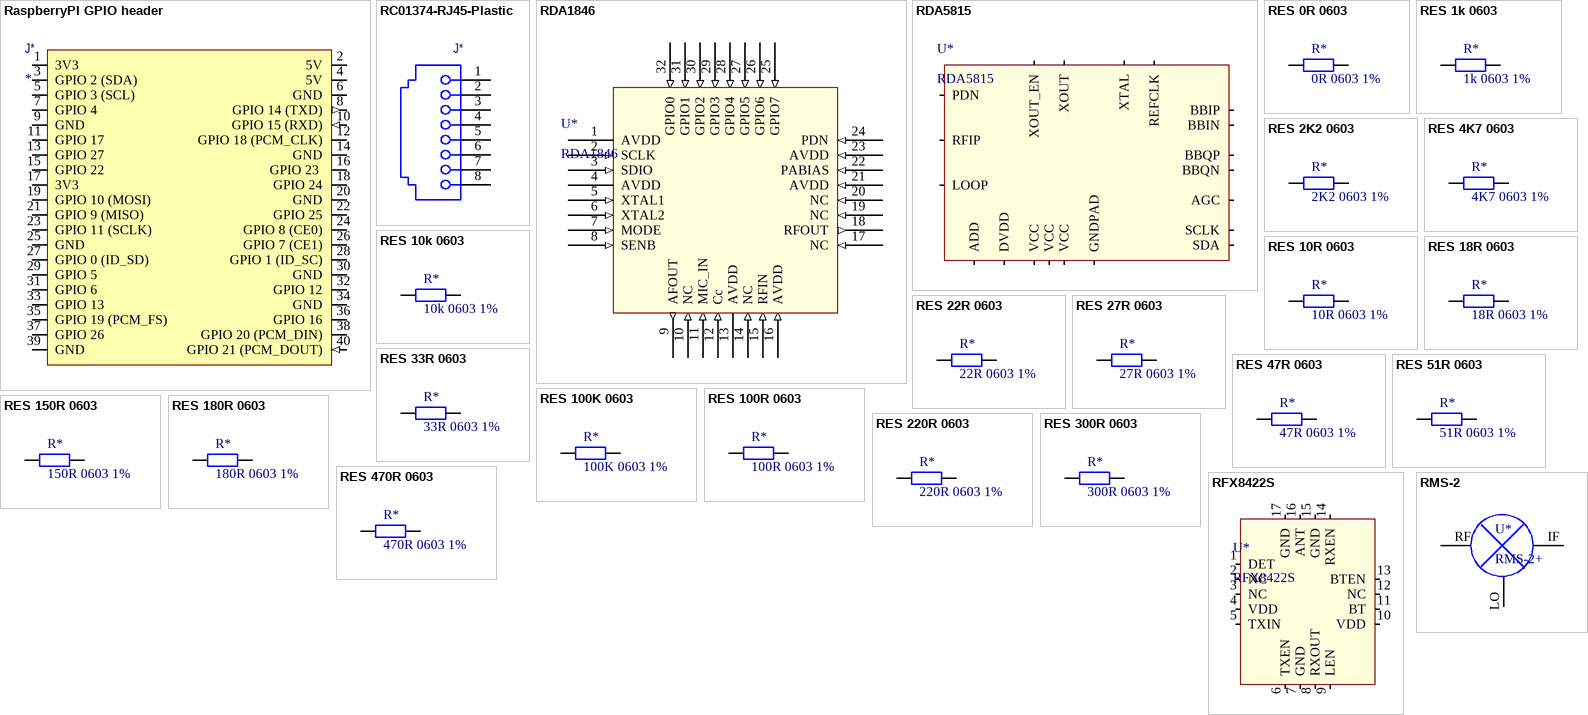
[diagram p1: symbols RaspberryPI GPIO header to RMS-2]

## RaspberryPI GPIO header
designator J*
Raspberry Pi GPIO header
footprint 2x20_header
pins: 1 3V3 (power) "3V3 power", 2 5V (power) "5V power", 3 GPIO 2 (SDA) (io), 4 5V (power) "5V power", 5 GPIO 3 (SCL) (io), 6 GND (power), 7 GPIO 4 (io), 8 GPIO 14 (TXD) (out), 9 GND (power), 10 GPIO 15 (RXD) (in), 11 GPIO 17 (io), 12 GPIO 18 (PCM_CLK) (io), 13 GPIO 27 (io), 14 GND (power), 15 GPIO 22 (io), 16 GPIO 23  (io) "GPIO 23", 17 3V3 (power) "3V3 power", 18 GPIO 24 (io), 19 GPIO 10 (MOSI) (io) "GPIO 10 (MOSI", 20 GND (power), 21 GPIO 9 (MISO) (io), 22 GPIO 25 (io), 23 GPIO 11 (SCLK) (io), 24 GPIO 8 (CE0) (io) "GPIO 8 (SCLK)", 25 GND (power), 26 GPIO 7 (CE1) (io), 27 GPIO 0 (ID_SD) (io), 28 GPIO 1 (ID_SC) (io), 29 GPIO 5 (io), 30 GND (power), 31 GPIO 6 (io), 32 GPIO 12 (io), 33 GPIO 13 (io), 34 GND (power), 35 GPIO 19 (PCM_FS) (io), 36 GPIO 16 (io), 37 GPIO 26 (io), 38 GPIO 20 (PCM_DIN) (io), 39 GND (power), 40 GPIO 21 (PCM_DOUT) (in)

## RC01374-RJ45-Plastic
designator J*  (value not drawn)
RJ45 THT Plastic Tab up, JLC
footprint RJ45_THT_plastic_RC01374 (RJ45 THT Plastic tab up)
pins: 1, 2, 3, 4, 5, 6, 7, 8

## RDA1846
designator U*
RD1846 RF tranceiver IC; Publisher: ftg
footprint QFN50P500X500X100_HS-33N (QFN, 32-Leads, Body 5,00x5,00mm, Pitch 0,50mm, Thermal Pad 3,43x3,43mm, IPC Medium Density)
pins: 1 AVDD (power) "Power supply", 2 SCLK (in) "Serial CLK", 3 SDIO (in) "Serial Data", 4 AVDD (power) "Power supply", 5 XTAL1 (in) "Xtal osc", 6 XTAL2 (in) "Xtal osc", 7 MODE (in) "I2C/SPIselect", 8 SENB (in) "Serial latch input", 9 AFOUT (out) "Audio out", 10 NC (in) "nc", 11 MIC_IN (in) "Mic Input", 12 Cc (in) "comp cap pin", 13 AVDD (power) "Power supply", 14 NC (in), 15 RFIN (in) "RF input", 16 AVDD (in) "Power Supply", 17 NC (in), 18 RFOUT (out) "RF Output", 19 NC (in) "PA Bias supply", 20 NC (in), 21 AVDD (in) "Power Supply", 22 PABIAS (in) "PA Bias supply", 23 AVDD (in) "Power supply", 24 PDN (in) "Chip enable", 25 GPIO7 (in), 26 GPIO6 (in), 27 GPIO5 (in), 28 GPIO4 (in), 29 GPIO3 (in), 30 GPIO2 (in), 31 GPIO1 (in) "code IO", 32 GPIO0 (in) "CTCSS IO"

## RDA5815
designator U*
RDA5815 250-2400MHz tuner IC; Voltage: 3.3V; Publisher: iv
footprint QFN50P500X500X100_HS-33M_RDA (QFN_RDA, 32-Leads, Body 5,00x5,00mm, Pitch 0,50mm, Thermal Pad 3,43x3,43mm, IPC Low Density)
pins: 1 PDN (in), 2 RFIP (in), 3 LOOP (out), 4 VCC (in), 5 NC (in) hidden, 6 ADD (in), 7 NC (in) hidden, 8 AGC (in), 9 XOUT_EN (in), 10 NC (in) hidden, 11 NC (in) hidden, 12 NC (in) hidden, 13 NC (in) hidden, 14 NC (in) hidden, 15 NC (in) hidden, 16 XOUT (out), 17 XTAL (in), 18 REFCLK (in), 19 NC (in) hidden, 20 DVDD (in), 21 BBIP (out), 22 BBIN (out), 23 BBQN (out), 24 BBQP (out), 25 VCC (in), 26 NC (in) hidden, 27 NC (out) hidden, 28 SDA (in), 29 SCLK (in), 30 VCC (in), 31 NC (in) hidden, 32 NC (in) hidden, 33 GNDPAD (in)

## RES 0R 0603
designator R*, comment 0R 0603 1%
Value: 0R; Case: 0603; Tolerance: 1%; Publisher: iv
footprint R0603
pins: 1, 2

## RES 1k 0603
designator R*, comment 1k 0603 1%
Value: 1k; Case: 0603; Tolerance: 1%; Publisher: iv
footprint R0603
pins: 1, 2

## RES 2K2 0603
designator R*, comment 2K2 0603 1%
Value: 2K2; Case: 0603; Tolerance: 1%; Publisher: iv
footprint R0603
pins: 1, 2

## RES 4K7 0603
designator R*, comment 4K7 0603 1%
Value: 4K7; Case: 0603; Tolerance: 1%; Publisher: iv
footprint R0603
pins: 1, 2

## RES 10k 0603
designator R*, comment 10k 0603 1%
10k 0603 1% resistor; Value: 10k; Case: 0603 Imperial; Publisher: iv; Tolerance: 1%
footprint R0603
pins: 1, 2

## RES 10R 0603
designator R*, comment 10R 0603 1%
Value: 10R; Case: 0603; Tolerance: 1%; Publisher: iv
footprint R0603
pins: 1, 2

## RES 18R 0603
designator R*, comment 18R 0603 1%
Value: 18R; Case: 0603; Tolerance: 1%; Publisher: iv
footprint R0603
pins: 1, 2

## RES 22R 0603
designator R*, comment 22R 0603 1%
Value: 22R; Case: 0603; Tolerance: 1%; Publisher: iv
footprint R0603
pins: 1, 2

## RES 27R 0603
designator R*, comment 27R 0603 1%
Value: 27R; Case: 0603; Tolerance: 1%; Publisher: iv
footprint R0603
pins: 1, 2

## RES 33R 0603
designator R*, comment 33R 0603 1%
Value: 33R; Case: 0603; Tolerance: 1%; Publisher: iv
footprint R0603
pins: 1, 2

## RES 47R 0603
designator R*, comment 47R 0603 1%
Value: 47R; Case: 0603; Tolerance: 1%; Publisher: iv
footprint R0603
pins: 1, 2

## RES 51R 0603
designator R*, comment 51R 0603 1%
Value: 51R; Case: 0603; Tolerance: 1%; Publisher: iv
footprint R0603
pins: 1, 2

## RES 100K 0603
designator R*, comment 100K 0603 1%
Value: 100K; Case: 0603; Tolerance: 1%; Publisher: iv
footprint R0603
pins: 1, 2

## RES 100R 0603
designator R*, comment 100R 0603 1%
Publisher: iv; Case: 0603; Value: 100R; Tolerance: 1%
footprint R0603
pins: 1, 2

## RES 150R 0603
designator R*, comment 150R 0603 1%
Value: 150R; Case: 0603; Tolerance: 1%; Publisher: iv
footprint R0603
pins: 1, 2

## RES 180R 0603
designator R*, comment 180R 0603 1%
Value: 180R; Case: 0603; Tolerance: 1%; Publisher: iv
footprint R0603
pins: 1, 2

## RES 220R 0603
designator R*, comment 220R 0603 1%
Value: 220R; Case: 0603; Tolerance: 1%; Publisher: iv
footprint R0603
pins: 1, 2

## RES 300R 0603
designator R*, comment 300R 0603 1%
Value: 300R; Case: 0603; Tolerance: 1%; Publisher: iv
footprint R0603
pins: 1, 2

## RES 470R 0603
designator R*, comment 470R 0603 1%
Value: 470R; Case: 0603; Tolerance: 1%; Publisher: iv
footprint R0603
pins: 1, 2

## RFX8422S
designator U*
2.4GHZ PA+LNA+SW +21dBm; Manufacturer: Skyworks Solutions; Supplier 1: Mouser; Manufacturer Part Number: RFX8422S; Stock 1: 0; Supplier Part Number 1: 477-RFX8422S
footprint QFN50P250X250X50_HS-17M (QFN, 16-Leads, Body 2,50x2,50mm, Pitch 0,50mm, Thermal Pad 1,50x1,50mm, IPC Low Density)
pins: 1 DET (in) "PA Power Detector", 2 NC (in), 3 NC (in), 4 VDD (in) "DC Supply", 5 TXIN (in) "WLAN TXIN", 6 TXEN (in) "TX Port Enable", 7 GND (in), 8 RXOUT (in) "WLAN RX Output", 9 LEN (in) "LNA Enable", 10 VDD (in) "DC Supply", 11 BT (in) "BT Port", 12 NC (in), 13 BTEN (in) "BT port enable", 14 RXEN (in) "RX port enable", 15 GND (in), 16 ANT (in) "Antenna port", 17 GND (in) "GND PAD"

## RMS-2
designator U*, comment RMS-2+
RF Mixer 5-1000MHz +7dBm; Manufacturer 1: Mini-Circuits; LO Drive: +13dBm; RF Power: +23dBm; Supplier 1: Junkbox; Manufacturer Part Number 1: RMS-2+; Stock 1: 5; ComponentLink1URL: https://www.minicircuits.com/pdfs/RMS-2+.pdf; ComponentLink1Description: RMS-2+ Datasheet; Supplier Part Number 1: RMS-2+
footprint TT240 (TT240 Mixer package)
pins: GND, IF, LO, RF

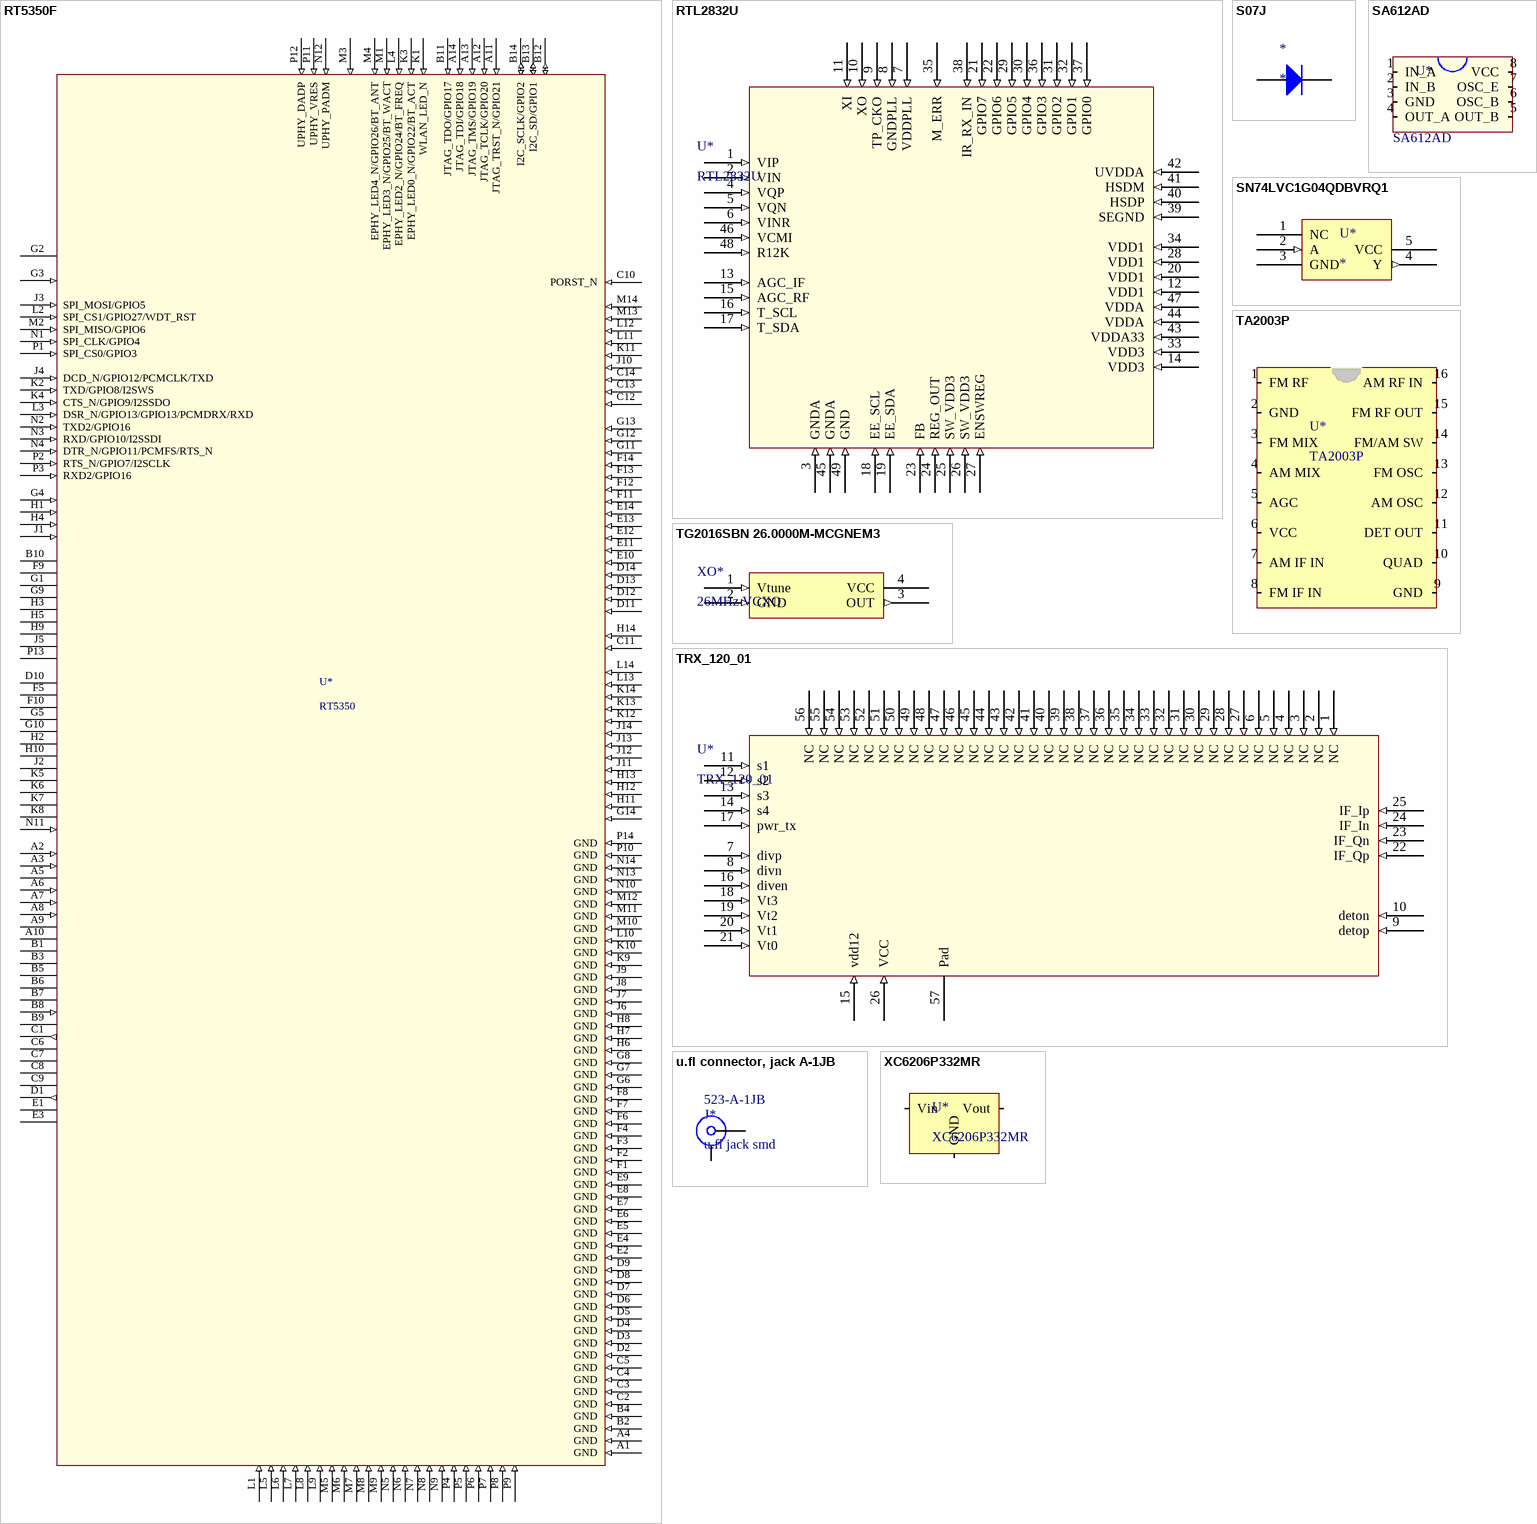
[diagram p2: symbols RT5350F to XC6206P332MR]

## RT5350F
designator U*, comment RT5350
RT5350F SoC
footprint TFBGA196Bx14
pins: A1 GND (in), A2 (in) "WL_RF0_2G_INP", A3 (in) "WL_RF0_2G_INN", A4 GND (in), A5 (power) "WL_RF_BB1_V12A", A6 (in) "WL_PLL_VC_CAP", A7 (in) "WL_PLL_X1", A8 (in) "WL_LDORF_IN_VX", A9 (power) "WL_BG_V33A", A10 (power) "PLL_AVDD_V12A", A11 JTAG_TRST_N/GPIO21 (in) "JTAG_TRST_N", A12 JTAG_TCLK/GPIO20 (in) "JTAG_TCLK", A13 JTAG_TMS/GPIO19 (in) "JTAG_TMS", A14 JTAG_TDI/GPIO18 (in) "JTAG_TDI", B1 (power) "WL_RF0_PA_V33P", B2 GND (in), B3 (power) "WL_RF0_RF_V12A", B4 GND (in), B5 (power) "WL_RF0_IF_V12A", B6 (power) "WL_PLL_V12A", B7 (power) "WL_LDOPLL_OUT_V12", B8 (in) "WL_BG_RES_12K", B9 (power) "WL_ADC_V12", B10 (power) "PLL_DVDD_12D", B11 JTAG_TDO/GPIO17 (in) "JTAG_TDO", B12 (io) "GPIO0", B13 I2C_SD/GPIO1 (io) "I2C_SD", B14 I2C_SCLK/GPIO2 (io) "I2C_SCLK", C1 (out) "WL_RF0PA_OUTP", C2 GND (in), C3 GND (in), C4 GND (in), C5 GND (in), C6 (power) "WL_VCO_VCO_V12A", C7 (power) "WL_LDOPLL_OUT_V12", C8 (power) "WL_LDORF_OUT_V12", C9 (power) "WL_RF_BB2_V12", C10 PORST_N (in), C11 (in) "MCKE", C12 (in) "MCAS_N", C13 (in) "MWE_N", C14 (in) "MCS1_N", D1 (out) "WL_RF0_PA_OUTN", D2 GND (in), D3 GND (in), D4 GND (in), D5 GND (in), D6 GND (in), D7 GND (in), D8 GND (in), D9 GND (in), D10 (power) "SOC_IO_V33D_1", D11 (in) "MD1", D12 (in) "MD2", D13 (in) "MD3", D14 (in) "MD4", E1 (power) "WL_RF0_PA_V33N", E2 GND (in), E3 (power) "WL_RF0_PA1_V33A", E4 GND (in), E5 GND (in), E6 GND (in), E7 GND (in), E8 GND (in), E9 GND (in), E10 (in) "MD0", E11 (in) "MD5", E12 (in) "MD7", E13 (in) "MD9", E14 (in) "MD10", F1 GND (in), F2 GND (in), F3 GND (in), F4 GND (in), F5 (power) "SOC_IO_V33D", F6 GND (in), F7 GND (in), F8 GND (in), F9 (power) "SOC_CO_V12D", F10 (power) "SDRAM_IO_V33D", F11 (in) "MD6", F12 (in) "MD8", F13 (in) "MD13", F14 (in) "MD15", G1 (power) "VOUT_1P2", G2 (power) "LDO_V18A", G3 (in) "LDOSEL", G4 (in) "COMP", G5 (power) "SOC_IO_V33D", G6 GND (in), G7 GND (in), G8 GND (in), G9 (power) "SOC_CO_V12D", G10 (power) "SDRAM_IO_V33D", G11 (in) "MD11", G12 (in) "MD12", G13 (in) "MD14", G14 (in) "MA0", H1 (in) "UGATE", H2 (power) "DCDC_V33A", H3 (power) "EXT_LDO_1P2", H4 (in) "FB", H5 (power) "SOC_CO_V12D", H6 GND (in), H7 GND (in), H8 GND (in), H9 (power) "SOC_CO_V12D", H10 (power) "SDRAM_IO_V33D", H11 (in) "MA3", H12 (in) "MA2", H13 (in) "MA1", H14 (in) "MCLK", J1 (in) "LGATE", J2 (power) "DCDC_V33D", J3 SPI_MOSI/GPIO5 (in) "SPI_MOSI", J4 DCD_N/GPIO12/PCMCLK/TXD (in) "DCD_N", J5 (power) "SOC_CO_V12D", J6 GND (in), J7 GND (in), J8 GND (in), J9 GND (in), J10 (in) "MDQM0", J11 (in) "MA9", J12 (in) "MA6", J13 (in) "MA5", J14 (in) "MA4", K1 WLAN_LED_N (in), K2 TXD/GPIO8/I2SWS (in) "TXD", K3 EPHY_LED0_N/GPIO22/BT_ACT (in) "EPHY_LED0_N", K4 CTS_N/GPIO9/I2SSDO (in) "CTS_N", K5 (power) "EPHY_V33A", K6 (power) "EPHY_V33A", K7 (power) "EPHY_V33A", K8 (power) "EPHY_V33A", K9 GND (in), K10 GND (in), K11 (in) "MCS0_N", K12 (in) "MA11", K13 (in) "MA8", K14 (in) "MA7", L1 (in) "EPHY_LED1_N", L2 SPI_CS1/GPIO27/WDT_RST (in) "SPI_CS1", L3 DSR_N/GPIO13/GPIO13/PCMDRX/RXD (in) "DSR_N", L4 EPHY_LED2_N/GPIO24/BT_FREQ (in) "EPHY_LED2_N", L5 (in) "EPHY_RXN_P0", L6 (in) "EPHY_RXN_P1", L7 (in) "EPHY_TPXP_P2", L8 (in) "EPHY_RXP_P3", L9 (in) "EPHY_TXP_P4", L10 GND (in), L11 (in) "MRAS_N", L12 (in) "MBA0", L13 (in) "MA12", L14 (in) "MA10", M1 EPHY_LED3_N/GPIO25/BT_WACT (in) "EPHY_LED3_N", M2 SPI_MISO/GPIO6 (in) "SPI_MISO", M3 (in) "RIN", M4 EPHY_LED4_N/GPIO26/BT_ANT (in) "EPHY_LED4_N", M5 (in) "EPHY_RXP_P0", M6 (in) "EPHY_RXP_P1", M7 (in) "EPHY_TXN_P2", M8 (in) "EPHY_RXN_P3", M9 (in) "EPHY_TXP_P4", M10 GND (in), M11 GND (in), M12 GND (in), M13 (in) "MDQM1", M14 (in) "MBA1", N1 SPI_CLK/GPIO4 (in) "SPI_CLK", N2 TXD2/GPIO16 (in) "TXD2", N3 RXD/GPIO10/I2SSDI (in) "RXD", N4 DTR_N/GPIO11/PCMFS/RTS_N (in) "DTR_N", N5 (in) "EPHY_TXN_P0", N6 (in) "EPHY_TXN_P1", N7 (in) "EPHY_RXN_P2", N8 (in) "EPHY_TXN_P3", N9 (in) "EPHY_RXN_P4", N10 GND (in), N11 (in) "UPHY0_VDDA_V33A", N12 UPHY_PADM (in), N13 GND (in), N14 GND (in), P1 SPI_CS0/GPIO3 (in) "SPI_CS0", P2 RTS_N/GPIO7/I2SCLK (in) "RTS_N", P3 RXD2/GPIO16 (in) "RXD2", P4 (in) "EPHY_REF_RES", P5 (in) "EPHY_TXP_P0", P6 (in) "EPHY_TXP_P1", P7 (in) "EPHY_RXP_P2", P8 (in) "EPHY_TXP_P3", P9 (in) "EPHY_RCP_P4", P10 GND (in), P11 UPHY_VRES (in), P12 UPHY_DADP (in), P13 (power) "UPHY_VDDL_V12D", P14 GND (in)

## RTL2832U
designator U*
RTL2832U DVB-T COFDM Demodulator + USB 2.0; Manufacturer: Realtek; Publisher: ftg; ComponentLink1Description: Work on RTL2832U Datasheet; ComponentLink1URL: https://sites.google.com/site/oh2ftg/home/rtl2832u; Mounting: Surface Mount; Package: QFN48
footprint QFN40P600X600X84_HS-49N (QFN, 48-Leads, Body 6,00x6,00mm, Pitch 0,40mm, Thermal Pad 4,14x4,14mm, IPC Medium Density)
pins: 1 VIP (in) "I+", 2 VIN (in) "I-", 3 GNDA (in) "ANALOG GND", 4 VQP (in) "Q+", 5 VQN (in) "Q-", 6 VINR (in) "7-Bit ADC Input", 7 VDDPLL (in) "PLL VCC", 8 GNDPLL (in) "PLL GND", 9 TP_CKO (in) "Clock input test pin", 10 XO (in) "Xtal osc Out", 11 XI (in) "Xtal osc In", 12 VDD1 (in) "Digital Core Power", 13 AGC_IF (in) "IF AGC out", 14 VDD3 (in) "Digital I/O Power", 15 AGC_RF (in) "RF AGC Out", 16 T_SCL (in) "Tuner I2C SCL", 17 T_SDA (in) "Tuner I2C SDA", 18 EE_SCL (in) "EEPROM I2C SCL", 19 EE_SDA (in) "EEPROM I2C SDA", 20 VDD1 (in) "Digital Core Power", 21 GPIO7 (in), 22 GPIO6 (in), 23 FB (in) "1.2V regulator feedback", 24 REG_OUT (in) "1.2V regulator output", 25 SW_VDD3 (in) "3.3V input for regulator", 26 SW_VDD3 (in) "3.3V input for regulator", 27 ENSWREG (in) "1.2Vregulator ENable", 28 VDD1 (in) "1.2V input", 29 GPIO5 (in), 30 GPIO4 (in), 31 GPIO2 (in), 32 GPIO1 (in), 33 VDD3 (in) "3.3V Input", 34 VDD1 (in) "1.2V Input", 35 M_ERR (in) "MPEG Error out", 36 GPIO3 (in), 37 GPIO0 (in), 38 IR_RX_IN (in) "IR Remote RX IN", 39 SEGND (in) "USB Reference Ground", 40 HSDP (in) "USB+", 41 HSDM (in) "USB-", 42 UVDDA (in) "USB 1.2V Analog Power supply", 43 VDDA33 (in) "AFE 3.3V Supply", 44 VDDA (in) "AFE Power", 45 GNDA (in) "AFE GND", 46 VCMI (in) "ADC AC-coupling reference voltage", 47 VDDA (in) "AFE Power", 48 R12K (in) "10k resistor to ground", 49 GND (in) "Thermal Pad"

## S07J
designator *
pins: 1 +, 2 -